# Altium schematic symbol library sliderpot.SchLib: 1 symbol
Pins are listed as number, name and electrical type; pins without a type are passive.

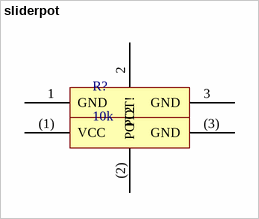
[diagram p0: symbol sliderpot]

## sliderpot
designator R?, comment 10k
footprint sliderpot
pins: 1 GND, 2 POT!, 3 GND, (1) VCC, (2) POT2, (3) GND